# Altium footprint library 87833-0820.PcbLib: 1 footprints
Each footprint in its own frame and in the unit in brackets; x right, y up, seen from the top. Pads: shape width x height; smd on the part's side, far side on the other; paste and mask are expansions set on the pad; w line width, h text height; cw(c..) or ccw(c..) is an arc to the next point about the centre after c.
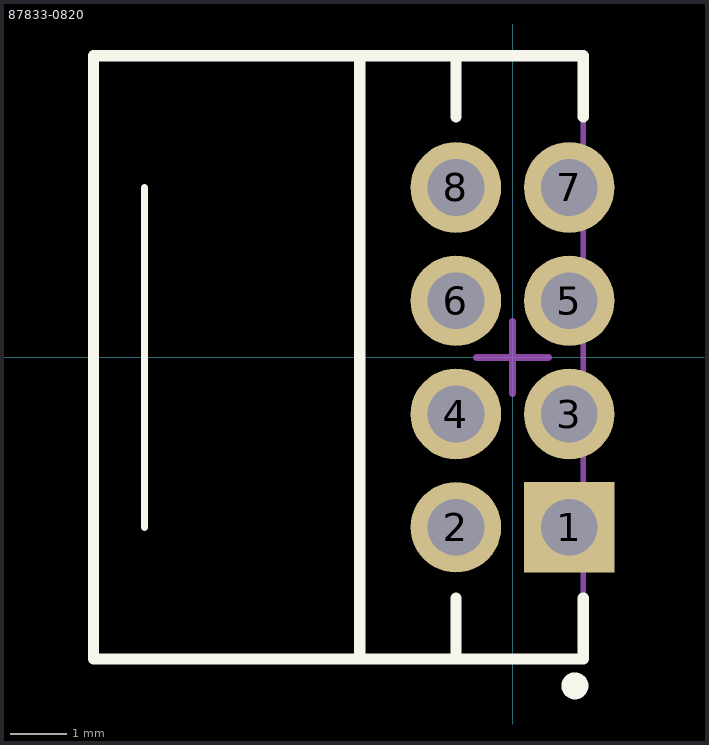
[diagram p0: the footprint, top view; thin cyan lines are the x and y axes]

## 87833-0820 [mm]
pads (8):
  rect 1.6x1.6 hole 1 mask+0.051: 1(1,-3)
  round 1.6 hole 1 mask+0.051: 2(-1,-3) 3(1,-1) 4(-1,-1) 5(1,1) 6(-1,1) 7(1,3) 8(-1,3)
Top Overlay:
  circle w0.254: c1.1,-5.8 r0.112
  lines w0.127: -6.5,-3 -6.5,3
  lines w0.2: -2.7,-5.325 -2.7,5.325 ; -1,-4.25 -1,-5.325 ; -1,4.25 -1,5.325 ; 1.25,-4.25 1.25,-5.325 -1,-5.325 ; 1.25,4.25 1.25,5.325 -7.4,5.325 -7.4,-5.325 -1,-5.325
Mechanical 13:
  lines w0.1: -7.4,-5.325 -7.4,5.325 1.25,5.325 1.25,-5.325 -7.4,-5.325
Mechanical 15:
  lines w0.127: -0.635,0 0.635,0 ; 0,-0.635 0,0.635
3D body "878330819.stp": height 6.31, standoff -2.15, extent -7.4,-5.325 1.25,5.325